# Altium footprint library Current Sense Amplifier.PcbLib: 1 footprints
Each footprint in its own frame and in the unit in brackets; x right, y up, seen from the top. Pads: shape width x height; smd on the part's side, far side on the other; paste and mask are expansions set on the pad; w line width, h text height; cw(c..) or ccw(c..) is an arc to the next point about the centre after c.
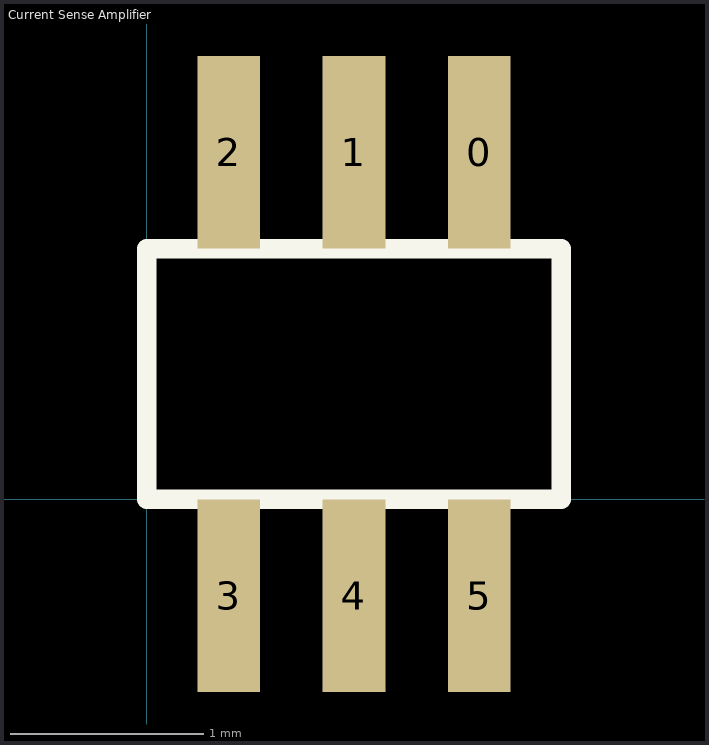
[diagram p0: the footprint, top view; thin cyan lines are the x and y axes]

## Current Sense Amplifier [mm]
pads (6):
  rect 0.325x1 smd: 0(1.725,1.8) 1(1.075,1.8) 2(0.425,1.8) 3(0.425,-0.5) 4(1.075,-0.5) 5(1.725,-0.5)
Top Overlay:
  lines w0.1: 0,0 2.15,0 2.15,1.3 0,1.3 0,0